# Altium schematic symbol library CAPACITORS_MKlib.SchLib: 3 symbols
Pins are listed as number, name and electrical type; pins without a type are passive.

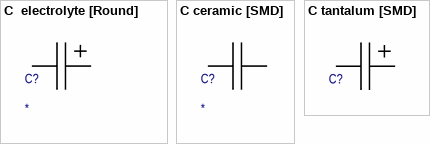
[diagram p0: symbols C  electrolyte [Round] to C tantalum [SMD]]

## C  electrolyte [Round]
designator C?
footprint C ELECTROLYTE [4x5]
footprint C ELECTROLYTE [4x7]
footprint C ELECTROLYTE [5x5]
footprint C ELECTROLYTE [5x7]
footprint C ELECTROLYTE [5x11]
footprint C ELECTROLYTE [6.3x5]
footprint C ELECTROLYTE [6.3x7]
footprint C ELECTROLYTE [6.3x11]
footprint C ELECTROLYTE [6.3x12]
footprint C ELECTROLYTE [8x12]
footprint C ELECTROLYTE [8x14]
footprint C ELECTROLYTE [8x16]
footprint C ELECTROLYTE [10x12]
footprint C ELECTROLYTE [10x16]
footprint C ELECTROLYTE [10x17]
footprint C ELECTROLYTE [10x20]
footprint C ELECTROLYTE [13x20]
footprint C ELECTROLYTE [13x25]
footprint C ELECTROLYTE [16x25]
footprint C ELECTROLYTE [16x30]
footprint C ELECTROLYTE [16x35]
footprint C ELECTROLYTE [18x25]
footprint C ELECTROLYTE [18x30]
footprint C ELECTROLYTE [18x35]
footprint C ELECTROLYTE [18x40]
pins: 1, 2

## C ceramic [SMD]
designator C?
footprint C CERAMIC [0201]
footprint C CERAMIC [0402]
footprint C CERAMIC [0603]
footprint C CERAMIC [0805]
footprint C CERAMIC [1206]
pins: 1, 2

## C tantalum [SMD]
designator C?  (value not drawn)
footprint C TANTALUM [3216-18] (Tantalum SMD capacitor 3.2x3.2x1.6 (mm) Type-A)
footprint C TANTALUM [3528-21] (Tantalum SMD capacitor 3.5x2.8x1.9 (mm) Type-B)
footprint C TANTALUM [6032-28] (Tantalum SMD capacitor 6.0x3.2x2.2 (mm) Type-C)
footprint C TANTALUM [7343-31] (Tantalum SMD capacitor 7.3x4.3x2.4 (mm) Type-D)
footprint C TANTALUM [7343-43] (Tantalum SMD capacitor 7.3x4.3x4.1 (mm) Type-E)
pins: 1, 2